# EAGLE library part BUCK (library buck)
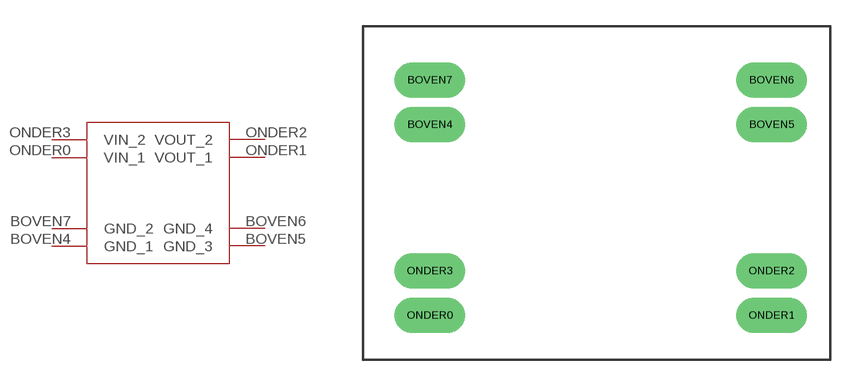
[diagram p0: symbol with the pads of BUCK; footprint BUCK]

Designator prefix -

## BUCK  [BUCK]
BOVEN4  GND_1
BOVEN5  GND_3
BOVEN6  GND_4
BOVEN7  GND_2
ONDER0  VIN_1
ONDER1  VOUT_1
ONDER2  VOUT_2
ONDER3  VIN_2

## Footprint BUCK (pad centres in mm)
drill 1.27 pad 2.032 long: BOVEN4 0,10.9; BOVEN5 19.51,10.9; BOVEN6 19.51,13.44; BOVEN7 0,13.44; ONDER0 0,0; ONDER1 19.51,0; ONDER2 19.51,2.54; ONDER3 0,2.54